# Altium footprint library RES_CHIP_2512_S_PAN.PcbLib: 1 footprints
Each footprint in its own frame and in the unit in brackets; x right, y up, seen from the top. Pads: shape width x height; smd on the part's side, far side on the other; paste and mask are expansions set on the pad; w line width, h text height; cw(c..) or ccw(c..) is an arc to the next point about the centre after c.
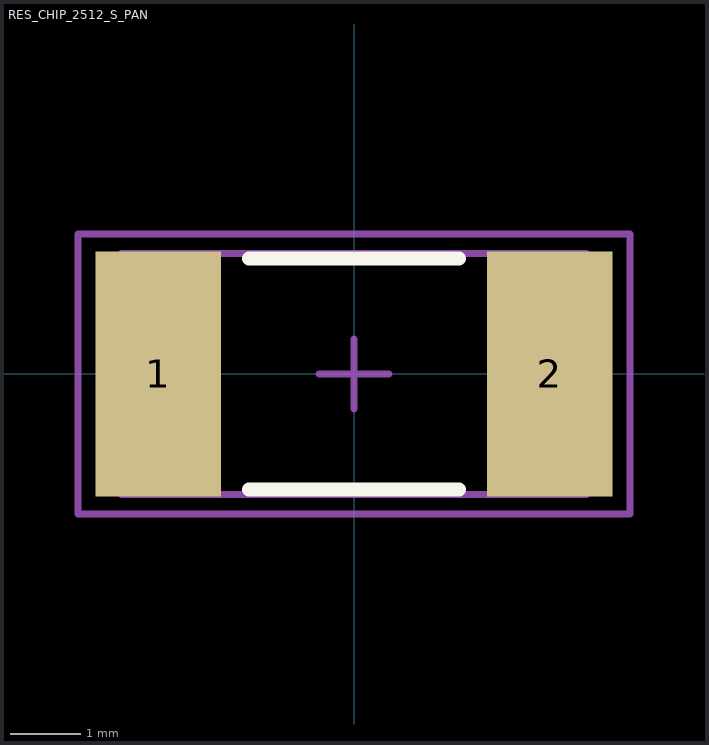
[diagram p0: the footprint, top view; thin cyan lines are the x and y axes]

## RES_CHIP_2512_S_PAN [mm]
height 1.1
pads (2):
  rect 1.8x3.5 smd: 1(-2.8,0) 2(2.8,0)
Top Overlay:
  lines w0.2: -1.5,-1.65 1.5,-1.65 ; -1.5,1.65 1.5,1.65
Mechanical 13:
  lines w0.1: -3.325,-1.725 -3.325,1.725 3.325,1.725 3.325,-1.725 -3.325,-1.725
Mechanical 15:
  lines w0.1: -0.5,0 0.5,0 ; 0,-0.5 0,0.5 ; -3.95,-2 -3.95,2 3.95,2 3.95,-2 -3.95,-2
3D body: height 0.8, standoff 0, extent -3.205,-1.594 3.195,1.606